# EAGLE library part M52-040000S1045 (library SamacSys_Parts)
Headers & Wire Housings Pin,2.54mm Tail,Vert SMT, 10P, Double Row Source: Datasheet <https://componentsearchengine.com/Datasheets/2/M52-040000S1045.pdf>
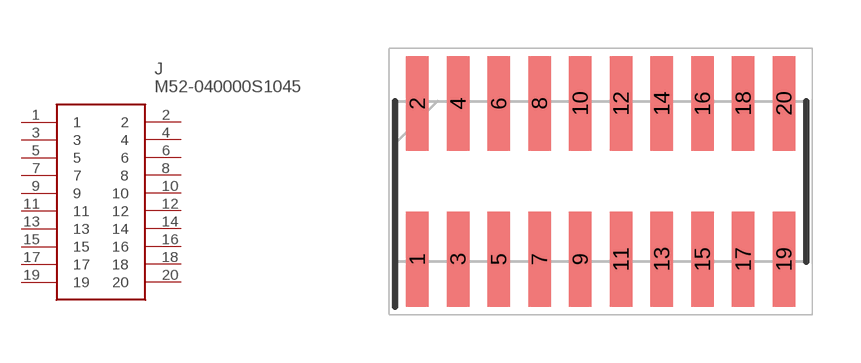
[diagram p9: symbol with the pads of HUSSP20W46P254X127_2X10_1270X5; footprint HUSSP20W46P254X127_2X10_1270X5]

Designator prefix J

## M52-040000S1045 (DESCRIPTION: Headers & Wire Housings Pin,2.54mm Tail,Vert SMT, 10P, Double Row; HEIGHT: mm; MANUFACTURER_NAME: Harwin; MANUFACTURER_PART_NUMBER: M52-040000S1045; MOUSER_PART_NUMBER: 855-M52-040000S1045; MOUSER_PRICE-STOCK: https://www.mouser.co.uk/ProductDetail/Harwin/M52-040000S1045?qs=wuXwK9wHm9s%2FdZxvpcYR9Q%3D%3D)  [HUSSP20W46P254X127_2X10_1270X5]
1  1
2  2
3  3
4  4
5  5
6  6
7  7
8  8
9  9
10  10
11  11
12  12
13  13
14  14
15  15
16  16
17  17
18  18
19  19
20  20

## Footprint HUSSP20W46P254X127_2X10_1270X5 (pad centres in mm)
M52-040000S1045-1
smd 0.7 x 2.95: 1 -5.715,-2.425; 2 -5.715,2.425; 3 -4.445,-2.425; 4 -4.445,2.425; 5 -3.175,-2.425; 6 -3.175,2.425; 7 -1.905,-2.425; 8 -1.905,2.425; 9 -0.635,-2.425; 10 -0.635,2.425; 11 0.635,-2.425; 12 0.635,2.425; 13 1.905,-2.425; 14 1.905,2.425; 15 3.175,-2.425; 16 3.175,2.425; 17 4.445,-2.425; 18 4.445,2.425; 19 5.715,-2.425; 20 5.715,2.425